# EAGLE library part SIP06 (library Ln-Varie)
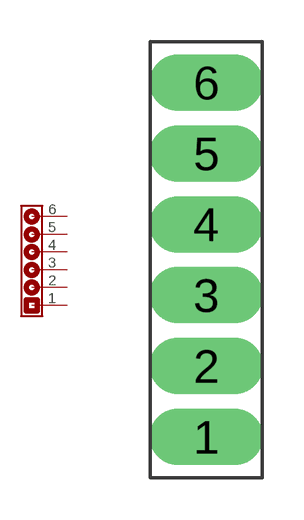
[diagram p2: symbol with the pads of SIP06; footprint SIP06]

Designator prefix -

## SIP06  [SIP06]
1  P$1
2  P$2
3  P$3
4  P$4
5  P$5
6  P$6

## Footprint SIP06 (pad centres in mm)
drill 0.8 pad 2.032 long: 1 0,0; 2 0,2.54; 3 0,5.08; 4 0,7.62; 5 0,10.16; 6 0,12.7